# EAGLE library part SWITCH (library maciver_robot_lib)
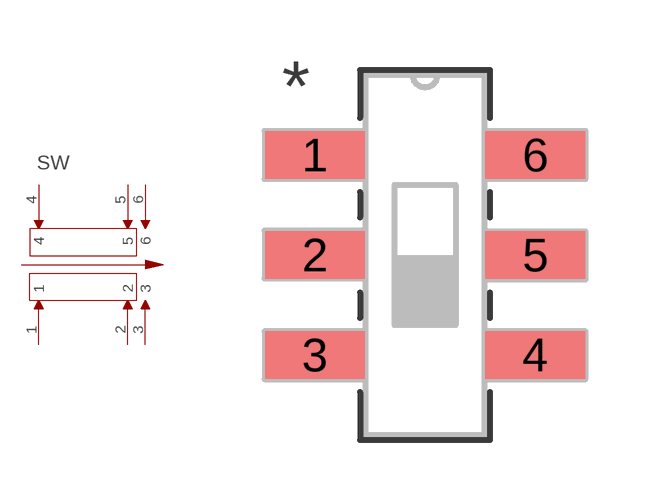
[diagram p1: symbol with the pads of SWITCH; footprint SWITCH]

Designator prefix SW

## SWITCH (COPYRIGHT: Copyright (C) 2018 Accelerated Designs. All rights reserved; MANUFACTURER_PART_NUMBER: JS202011SCQN; SOURCELIBRARY: C&K_2019-01-24; VENDOR: C&K)  [SWITCH]
1  1  pas
2  2  pas
3  3  pas
4  4  pas
5  5  pas
6  6  pas

## Footprint SWITCH (pad centres in mm)
smd 2.489 x 1.194: 1 -2.756,2.5; 2 -2.756,0; 3 -2.756,-2.5; 4 2.756,-2.5; 5 2.756,0; 6 2.756,2.5